# Altium integrated library CA-IS2062A.IntLib: 1 symbol
Pins are listed as number, name and electrical type; pins without a type are passive.

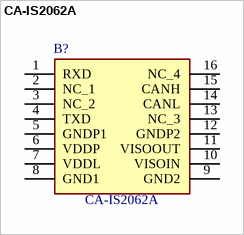
[diagram p0: symbol CA-IS2062A]

## CA-IS2062A
designator B?
LGA-16(4.7x5.2) Isolated CAN Transceivers (with Power) ROHS; Manufacturer_Name: ChipAnalog; Geometry.Height: 1.09mm; Manufacturer_Part_Number: CA-IS2062A; Mouser Part Number: *; Mouser Price/Stock: *; Arrow Part Number: *; Arrow Price/Stock: *; Datasheet Link: https://e.chipanalog.com/Public/Uploads/uploadfile/files/20250325/CAIS2062AdatasheetVersion1.01en20250325.pdf
footprint CAIS2062A
pins: 1 RXD, 2 NC_1, 3 NC_2, 4 TXD, 5 GNDP1, 6 VDDP, 7 VDDL, 8 GND1, 9 GND2, 10 VISOIN, 11 VISOOUT, 12 GNDP2, 13 NC_3, 14 CANL, 15 CANH, 16 NC_4